# EAGLE library part 750030421 (library Midcom Inc - EAGLE Lib V2-0)
Package Style: EFD20 Mounting: THT Pins: 10 pins Bobbin: 070-4071 Best pinouts for production vary per application. Please contact Wurth Electronics Midcom, Inc. for assistance with your custom design. Website: Wurth Electronics Midcom <http://www.we-online.com/midcom> Contact us Wurth Electronics Midcom, Inc. 121 Airport Dr. Watertown, SD 57201 Phone: (605) 886-4385 Fax: (605) 886-4486 E-Mail: midcom@we-online.com
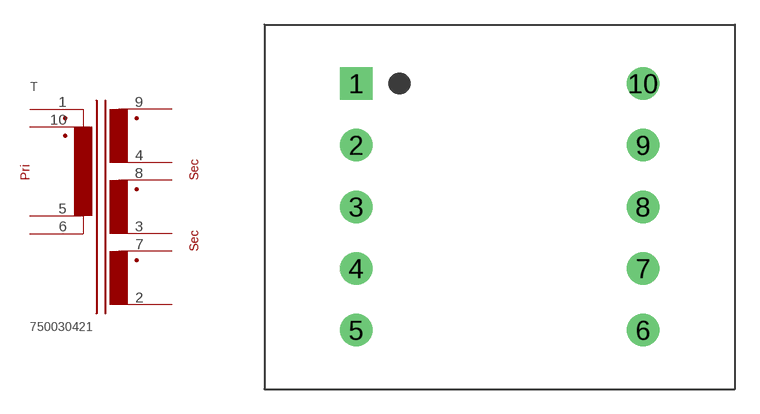
[diagram p394: symbol with the pads of EFD20_THT_H_10PIN_(4071); footprint EFD20_THT_H_10PIN_(4071)]

Designator prefix T

## 750030421  [EFD20_THT_H_10PIN_(4071)]
1  1  pas
2  2  pas
3  3  pas
4  4  pas
5  5  pas
6  6  pas
7  7  pas
8  8  pas
9  9  pas
10  10  pas

## Footprint EFD20_THT_H_10PIN_(4071) (pad centres in mm)
Package Style: EFD20 Mounting: THT Pins: 10 Bobbin: 070-4071
drill 1.321 square: 1 -8.75,7.518
drill 1.321: 2 -8.75,3.759; 3 -8.75,0; 4 -8.75,-3.759; 5 -8.75,-7.518; 6 8.75,-7.518; 7 8.75,-3.759; 8 8.75,0; 9 8.75,3.759; 10 8.75,7.518